# EAGLE library part 74HC161N (library NXP_By_element14_Batch_1)
Presettable synchronous 4-bit binary counter
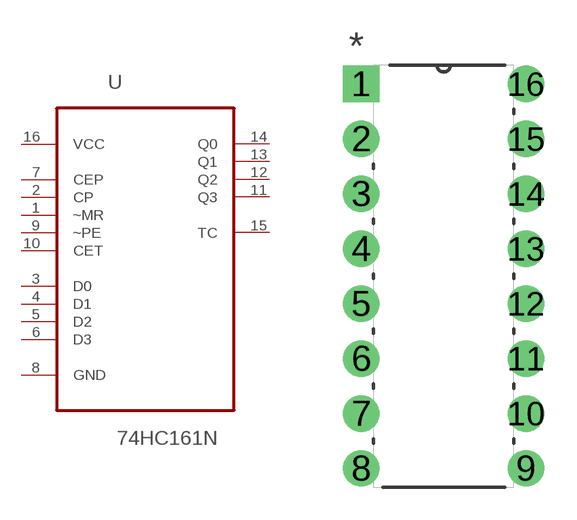
[diagram p44: symbol with the pads of DIP254P762X420-16; footprint DIP254P762X420-16]

Designator prefix U

## 74HC161N (MPN: 74HC161N; OC_FARNELL: 380600; OC_NEWARK: 07WX3684; PACKAGE: DIP-16; SUPPLIER: NXP)  [DIP254P762X420-16]
1  ~MR  in
2  CP  in
3  D0  in
4  D1  in
5  D2  in
6  D3  in
7  CEP  in
8  GND  pas
9  ~PE  in
10  CET  in
11  Q3  out
12  Q2  out
13  Q1  out
14  Q0  out
15  TC  out
16  VCC  pwr

## Footprint DIP254P762X420-16 (pad centres in mm)
drill 1.118 square: 1 -7.62,17.78
drill 1.118: 2 -7.62,15.24; 3 -7.62,12.7; 4 -7.62,10.16; 5 -7.62,7.62; 6 -7.62,5.08; 7 -7.62,2.54; 8 -7.62,0; 9 0,0; 10 0,2.54; 11 0,5.08; 12 0,7.62; 13 0,10.16; 14 0,12.7; 15 0,15.24; 16 0,17.78